# EAGLE library part MAX485CSA (library Circuitos-Creativos-Integrados-8pin)
Transceptor RS485 de bajo consumo, VCCmax = 12V typ=5V
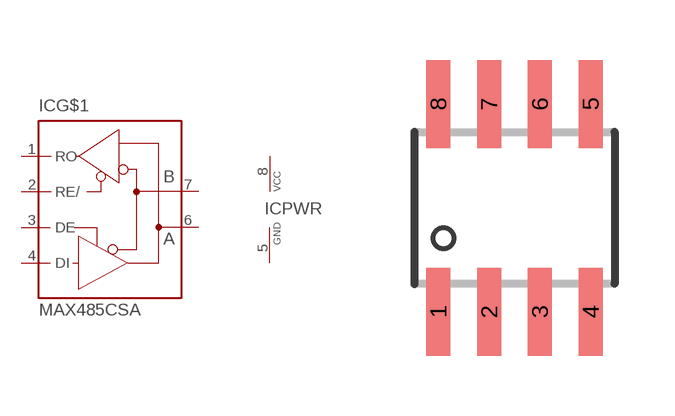
[diagram p2: symbol with the pads of SOIC-8; footprint SOIC-8]

Designator prefix IC; gates G$1=MAX485 PWR=VCC-GND

## MAX485CSA  [SOIC-8]
1  G$1:RO  out
2  G$1:RE/  in
3  G$1:DE  in
4  G$1:DI  in
5  PWR:GND  pwr
6  G$1:A  pas
7  G$1:B  pas
8  PWR:VCC  pwr

## Footprint SOIC-8 (pad centres in mm)
smd 0.6 x 2.2: 1 -1.905,-2.6; 2 -0.635,-2.6; 3 0.635,-2.6; 4 1.905,-2.6; 5 1.905,2.6; 6 0.635,2.6; 7 -0.635,2.6; 8 -1.905,2.6